# EAGLE library part TSM-119-04-L-DV (library SamacSys_Parts)
38 Position, Dual-Row, .100" Surface Mount Terminal Strip Source: Datasheet <http://suddendocs.samtec.com/prints/tsm-1xx-xx-xxx-xx-x-xxx-x-mkt.pdf>
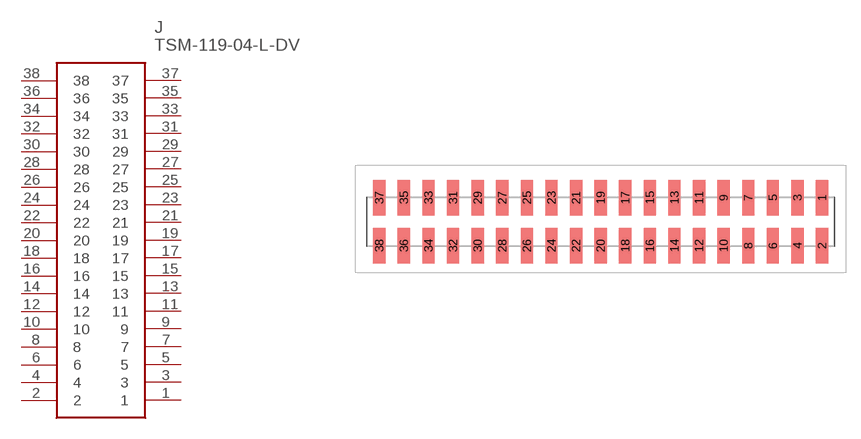
[diagram p3: symbol with the pads of TSM-119-YY-ZZZ-DV; footprint TSM-119-YY-ZZZ-DV]

Designator prefix J

## TSM-119-04-L-DV (DESCRIPTION: 38 Position, Dual-Row, .100&quot; Surface Mount Terminal Strip; HEIGHT: mm; MANUFACTURER_NAME: SAMTEC; MANUFACTURER_PART_NUMBER: TSM-119-04-L-DV)  [TSM-119-YY-ZZZ-DV]
1  1
2  2
3  3
4  4
5  5
6  6
7  7
8  8
9  9
10  10
11  11
12  12
13  13
14  14
15  15
16  16
17  17
18  18
19  19
20  20
21  21
22  22
23  23
24  24
25  25
26  26
27  27
28  28
29  29
30  30
31  31
32  32
33  33
34  34
35  35
36  36
37  37
38  38

## Footprint TSM-119-YY-ZZZ-DV (pad centres in mm)
TSM-119-YY-ZZZ-DV
smd 1.27 x 3.68: 1 22.86,2.475; 2 22.86,-2.475; 3 20.32,2.475; 4 20.32,-2.475; 5 17.78,2.475; 6 17.78,-2.475; 7 15.24,2.475; 8 15.24,-2.475; 9 12.7,2.475; 10 12.7,-2.475; 11 10.16,2.475; 12 10.16,-2.475; 13 7.62,2.475; 14 7.62,-2.475; 15 5.08,2.475; 16 5.08,-2.475; 17 2.54,2.475; 18 2.54,-2.475; 19 0,2.475; 20 0,-2.475; 21 -2.54,2.475; 22 -2.54,-2.475; 23 -5.08,2.475; 24 -5.08,-2.475; 25 -7.62,2.475; 26 -7.62,-2.475; 27 -10.16,2.475; 28 -10.16,-2.475; 29 -12.7,2.475; 30 -12.7,-2.475; 31 -15.24,2.475; 32 -15.24,-2.475; 33 -17.78,2.475; 34 -17.78,-2.475; 35 -20.32,2.475; 36 -20.32,-2.475; 37 -22.86,2.475; 38 -22.86,-2.475